# Altium schematic symbol library TXB0108PWR.SchLib: 1 symbol
Pins are listed as number, name and electrical type; pins without a type are passive.

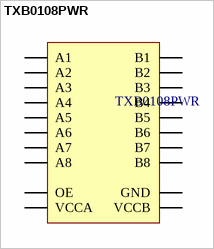
[diagram p0: symbol TXB0108PWR]

## TXB0108PWR
designator TXB0108PWR
8-Bit Bidirectional Voltage-Level Shifter with Auto Direction Sensing
footprint TXB0108PWR (8-Bit Bidirectional Voltage-Level Shifter with Auto Direction Sensing)
pins: A1, A2, A3, A4, A5, A6, A7, A8, B1, B2, B3, B4, B5, B6, B7, B8, GND, OE, VCCA, VCCB